# EAGLE library part E01-ML01SP4 (library CanCubeSat)
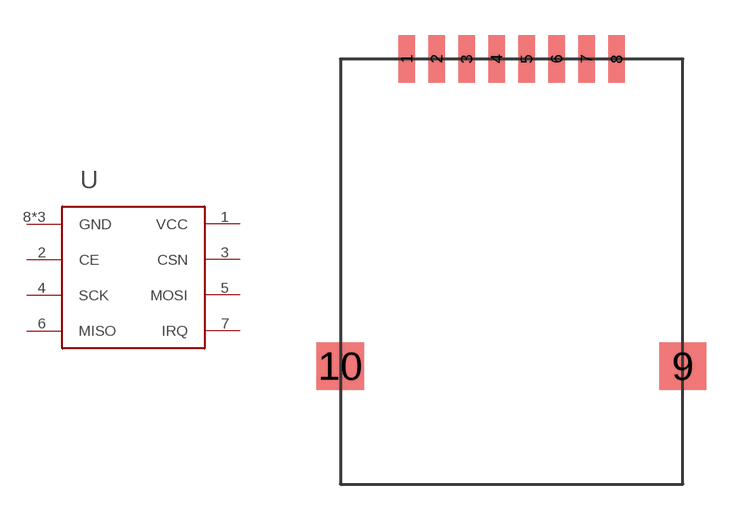
[diagram p37: symbol with the pads of E01-ML01SP4; footprint E01-ML01SP4]

Designator prefix -

## E01-ML01SP4  [E01-ML01SP4]
1  VCC
2  CE
3  CSN
4  SCK
5  MOSI
6  MISO
7  IRQ
8  GND
9  GND
10  GND

## Footprint E01-ML01SP4 (pad centres in mm)
smd 0.7 x 2: 1 -4.445,9; 2 -3.175,9; 3 -1.905,9; 4 -0.635,9; 5 0.635,9; 6 1.905,9; 7 3.175,9; 8 4.445,9
smd 2 x 2: 9 7.25,-4; 10 -7.25,-4